# EAGLE library part LME49600 (library national-semiconductor)
High Performance, High Fidelity, High Current Audio Buffer Source: Data sheet <http://www.national.com/ds/LM/LME49600.pdf>
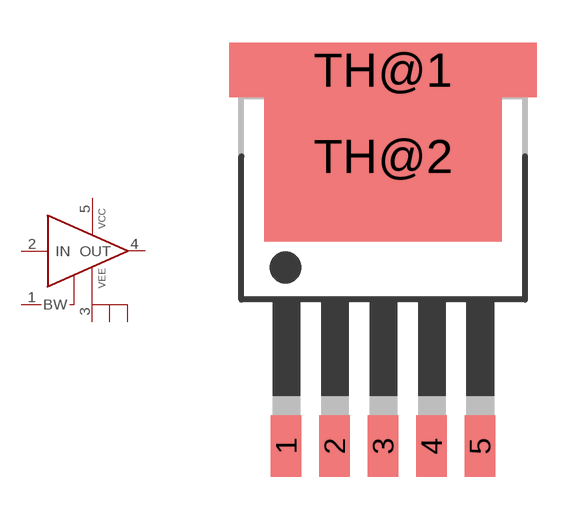
[diagram p6: symbol with the pads of TS5B; footprint TS5B]

Designator prefix IC

## LME49600  [TS5B]
1  BW  in
2  IN  in
3  VEE  pwr
4  OUT  out
5  VCC  pwr
TH@1  VEE  pwr
TH@2  VEE  pwr

## Footprint TS5B (pad centres in mm)
NS Package TS5B Source: Data sheet <http://www.national.com/ds/LM/LME49600.pdf>
smd 1.07 x 2.16: 1 -3.4,-6.55; 2 -1.7,-6.55; 3 0,-6.55; 4 1.7,-6.55; 5 3.4,-6.55
smd 10.8 x 1.91: TH@1 0,6.665
smd 8.33 x 6: TH@2 0,3.635